# EAGLE library part SN74AHC4066 (library switches)
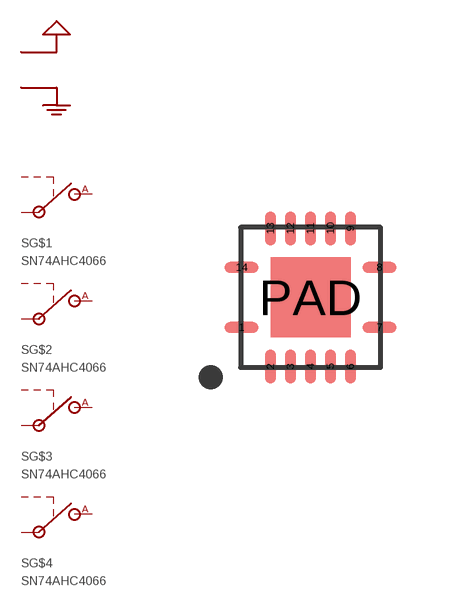
[diagram p9: symbol with the pads of S-PVQFN-N14-3.5MM; footprint S-PVQFN-N14-3.5MM]

Designator prefix S; gates G$1=SPST-DIGITAL G$2=SPST-DIGITAL G$3=SPST-DIGITAL G$4=SPST-DIGITAL G$5=PWR

## SN74AHC4066-RGY (DIGIKEY: 296-15258-1-ND)  [S-PVQFN-N14-3.5MM]
1  G$1:IN
2  G$1:A
3  G$2:A
4  G$2:IN
5  G$2:CTRL
6  G$3:CTRL
7  G$5:GND
8  G$3:IN
9  G$3:A
10  G$4:A
11  G$4:IN
12  G$4:CTRL
13  G$1:CTRL
14  G$5:VCC

## Footprint S-PVQFN-N14-3.5MM (pad centres in mm)
smd 0.85 x 0.28: 1 -1.725,-0.75; 7 1.725,-0.75; 8 1.725,0.75; 14 -1.725,0.75
smd 0.28 x 0.85: 2 -1,-1.725; 3 -0.5,-1.725; 4 0,-1.725; 5 0.5,-1.725; 6 1,-1.725; 9 1,1.725; 10 0.5,1.725; 11 0,1.725; 12 -0.5,1.725; 13 -1,1.725
smd 2 x 2: PAD 0,0